# EAGLE library part ESPWROOM32 (library Development Boards)
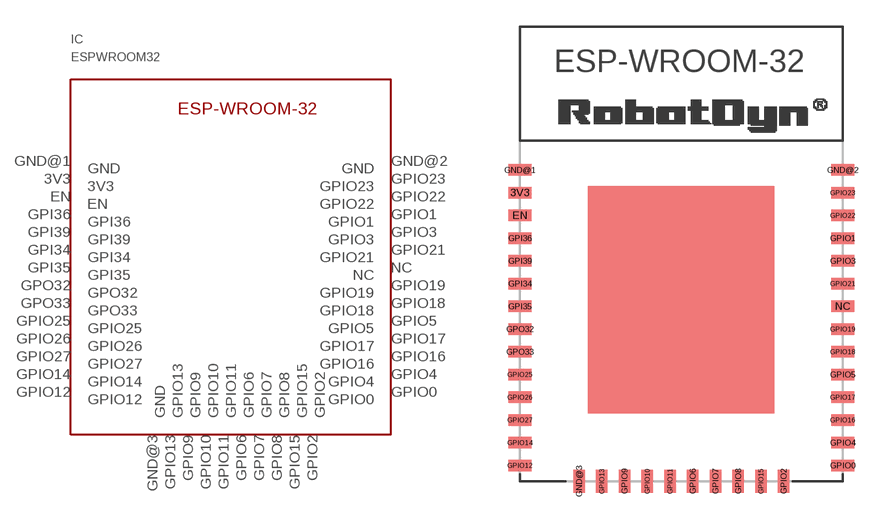
[diagram p0: symbol with the pads of ESPWROOM32; footprint ESPWROOM32]

Designator prefix IC

## ESPWROOM32 (DATASHEET: value; DIGIKEY-PART-NUMBER: value; LINK: value; MANUFACTURER: value; MPN: value; TECHNOLOGY: value; UNIT-PRICE: value)  [ESPWROOM32]
3V3  3V3
EN  EN
GND@1  GND
GND@2  GND
GND@3  GND
GPI34  GPI34
GPI35  GPI35
GPI36  GPI36
GPI39  GPI39
GPIO0  GPIO0
GPIO1  GPIO1
GPIO2  GPIO2
GPIO3  GPIO3
GPIO4  GPIO4
GPIO5  GPIO5
GPIO6  GPIO6
GPIO7  GPIO7
GPIO8  GPIO8
GPIO9  GPIO9
GPIO10  GPIO10
GPIO11  GPIO11
GPIO12  GPIO12
GPIO13  GPIO13
GPIO14  GPIO14
GPIO15  GPIO15
GPIO16  GPIO16
GPIO17  GPIO17
GPIO18  GPIO18
GPIO19  GPIO19
GPIO21  GPIO21
GPIO22  GPIO22
GPIO23  GPIO23
GPIO25  GPIO25
GPIO26  GPIO26
GPIO27  GPIO27
GPO32  GPO32
GPO33  GPO33
NC  NC

## Footprint ESPWROOM32 (pad centres in mm)
smd 1.27 x 0.635: 3V3 -8.89,5.969; EN -8.89,4.699; GND@1 -8.89,7.239; GND@2 9.144,7.239; GPI34 -8.89,0.889; GPI35 -8.89,-0.381; GPI36 -8.89,3.429; GPI39 -8.89,2.159; GPIO0 9.144,-9.271; GPIO1 9.144,3.429; GPIO3 9.144,2.159; GPIO4 9.144,-8.001; GPIO5 9.144,-4.191; GPIO12 -8.89,-9.271; GPIO14 -8.89,-8.001; GPIO16 9.144,-6.731; GPIO17 9.144,-5.461; GPIO18 9.144,-2.921; GPIO19 9.144,-1.651; GPIO21 9.144,0.889; GPIO22 9.144,4.699; GPIO23 9.144,5.969; GPIO25 -8.89,-4.191; GPIO26 -8.89,-5.461; GPIO27 -8.89,-6.731; GPO32 -8.89,-1.651; GPO33 -8.89,-2.921; NC 9.144,-0.381
smd 0.635 x 1.27: GND@3 -5.588,-10.16; GPIO2 5.842,-10.16; GPIO6 0.762,-10.16; GPIO7 2.032,-10.16; GPIO8 3.302,-10.16; GPIO9 -3.048,-10.16; GPIO10 -1.778,-10.16; GPIO11 -0.508,-10.16; GPIO13 -4.318,-10.16; GPIO15 4.572,-10.16